# Altium schematic symbol library ftr-j2ak006w.SchLib: 1 symbol
Pins are listed as number, name and electrical type; pins without a type are passive.

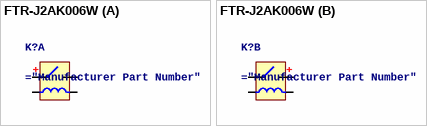
[diagram p0: symbol FTR-J2AK006W]

## FTR-J2AK006W
designator K?
General Purpose Relay 450VDC/10A
part A pins: 1, 2, 5, 6
part B pins: 3, 4, 7, 8
part A text: +
part B text: +